# EAGLE library part NAVSPARK_ARDUINO (library gps)
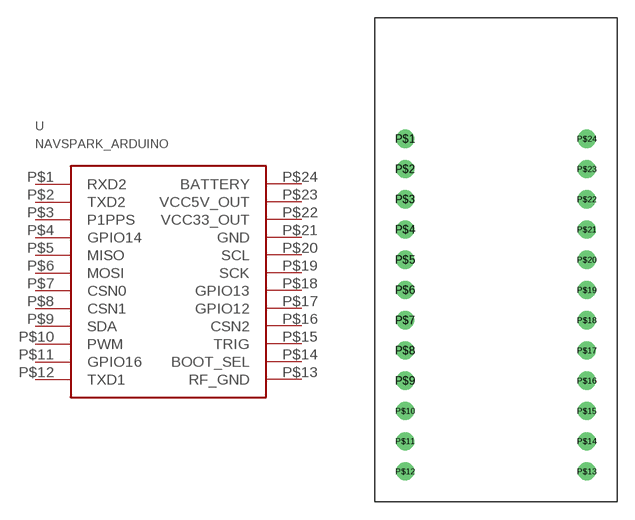
[diagram p0: symbol with the pads of NAVSPARK_ARDUINO; footprint NAVSPARK_ARDUINO]

Designator prefix -

## NAVSPARK_ARDUINO  [NAVSPARK_ARDUINO]
P$1  RXD2
P$2  TXD2
P$3  P1PPS
P$4  GPIO14
P$5  MISO
P$6  MOSI
P$7  CSN0
P$8  CSN1
P$9  SDA
P$10  PWM
P$11  GPIO16
P$12  TXD1
P$13  RF_GND
P$14  BOOT_SEL
P$15  TRIG
P$16  CSN2
P$17  GPIO12
P$18  GPIO13
P$19  SCK
P$20  SCL
P$21  GND
P$22  VCC33_OUT
P$23  VCC5V_OUT
P$24  BATTERY

## Footprint NAVSPARK_ARDUINO (pad centres in mm)
drill 1.016: P$1 0,0; P$2 0,-2.54; P$3 0,-5.08; P$4 0,-7.62; P$5 0,-10.16; P$6 0,-12.7; P$7 0,-15.24; P$8 0,-17.78; P$9 0,-20.32; P$10 0,-22.86; P$11 0,-25.4; P$12 0,-27.94; P$13 15.24,-27.94; P$14 15.24,-25.4; P$15 15.24,-22.86; P$16 15.24,-20.32; P$17 15.24,-17.78; P$18 15.24,-15.24; P$19 15.24,-12.7; P$20 15.24,-10.16; P$21 15.24,-7.62; P$22 15.24,-5.08; P$23 15.24,-2.54; P$24 15.24,0